# EAGLE library part HM-10 (library Module)
HM-10 Bluetooth LE module
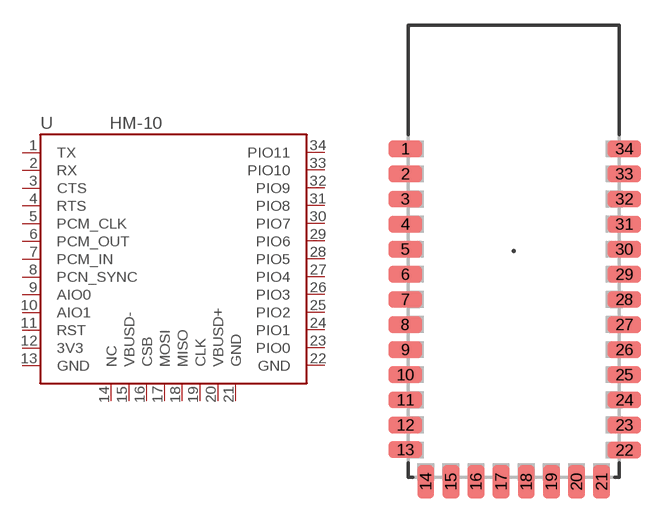
[diagram p5: symbol with the pads of HM-10; footprint HM-10]

Designator prefix U

## HM-10 (CYTRON_PC: HM-10; DESC: Bluetooth LE module; MPN: HM-10)  [HM-10]
1  TX
2  RX
3  CTS
4  RTS
5  PCM_CLK
6  PCM_OUT
7  PCM_IN
8  PCN_SYNC
9  AIO0
10  AIO1
11  RST
12  3V3
13  GND
14  NC
15  VBUSD-
16  CSB
17  MOSI
18  MISO
19  CLK
20  VBUSD+
21  GND
22  GND
23  PIO0
24  PIO1
25  PIO2
26  PIO3
27  PIO4
28  PIO5
29  PIO6
30  PIO7
31  PIO8
32  PIO9
33  PIO10
34  PIO11

## Footprint HM-10 (pad centres in mm)
smd 2 x 1: 1 -6.473,6.111; 2 -6.473,4.611; 3 -6.473,3.111; 4 -6.473,1.611; 5 -6.473,0.111; 6 -6.473,-1.389; 7 -6.473,-2.889; 8 -6.473,-4.389; 9 -6.473,-5.889; 10 -6.473,-7.389; 11 -6.473,-8.889; 12 -6.473,-10.389; 13 -6.473,-11.864; 22 6.598,-11.889; 23 6.6,-10.389; 24 6.6,-8.889; 25 6.6,-7.389; 26 6.6,-5.889; 27 6.6,-4.389; 28 6.6,-2.889; 29 6.6,-1.389; 30 6.6,0.111; 31 6.6,1.611; 32 6.6,3.111; 33 6.6,4.611; 34 6.6,6.111
smd 1 x 2: 14 -5.25,-13.782; 15 -3.75,-13.784; 16 -2.25,-13.784; 17 -0.75,-13.784; 18 0.75,-13.784; 19 2.25,-13.784; 20 3.75,-13.784; 21 5.25,-13.782